# Altium footprint library F0603G0R03FNTR.PcbLib: 1 footprints
Each footprint in its own frame and in the unit in brackets; x right, y up, seen from the top. Pads: shape width x height; smd on the part's side, far side on the other; paste and mask are expansions set on the pad; w line width, h text height; cw(c..) or ccw(c..) is an arc to the next point about the centre after c.
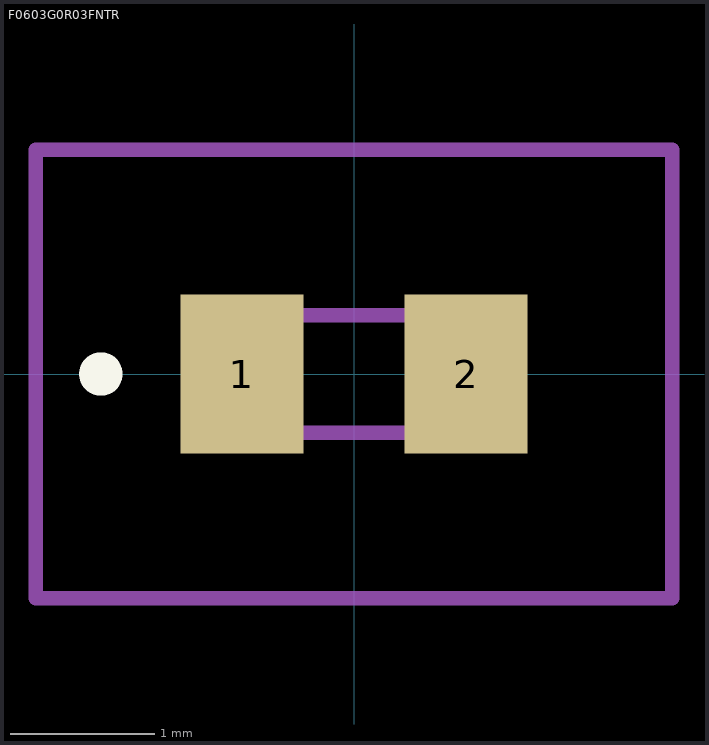
[diagram p0: the footprint, top view; thin cyan lines are the x and y axes]

## F0603G0R03FNTR [mm]
pads (2):
  rect 0.85x1.1 smd: 1(-0.775,0) 2(0.775,0)
Top Overlay:
  lines w0.2: -1.8,0 -1.8,0 ; -1.8,0 ccw(c-1.75,0) -1.7,0 ; -1.8,0 cw(c-1.75,0) -1.7,0 ; -1.8,0 -1.8,0 ; -1.8,0 ccw(c-1.75,0) -1.7,0 ; -1.7,0 -1.7,0
Mechanical 15:
  lines w0.1: -0.8,-0.405 0.8,-0.405 0.8,0.405 -0.8,0.405 -0.8,-0.405
Mechanical 20:
  lines w0.1: -2.2,-1.55 2.2,-1.55 2.2,1.55 -2.2,1.55 -2.2,-1.55